# Altium schematic symbol library schlib1.schlib: 5 symbols
Pins are listed as number, name and electrical type; pins without a type are passive.

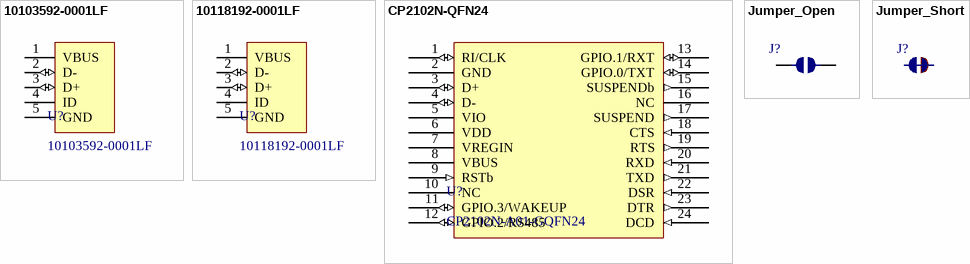
[diagram p0: symbols 10103592-0001LF to Jumper_Short]

## 10103592-0001LF
designator U?
CONN RCPT REV MICRO USB TYPE B; Manufacturer: Amphenol FCI; Connector Type: USB - micro B; Number of Contacts: 5; Gender: Receptacle; Specifications: USB 2.0; Supplier 1: Digi-Key; Manufacturer Part Number: 10103592-0001LF; RoHS: RoHS Compliant; Category: Connectors, Interconnects; Stock 1: 17913; Pricing 1: 1=0.76, 10=0.712, 25=0.6412, 50=0.57, 100=0.5462, 250=0.49872, 500=0.47498 (USD); Packaging: Cut Tape (CT); Part Status: Active; Mounting Type: Surface Mount, Right Angle, Horizontal; Features: Shielded, Solder Retention; Ingress Protection: -; ComponentLink1URL: http://portal.fciconnect.com/Comergent//fci/drawing/10103592.pdf; ComponentLink1Description: http://portal.fciconnect.com/Comergent//fci/drawing/10103592.pdf; Supplier Part Number 1: 609-4048-1-ND
footprint 10103592-0001LF (micro B USB 2.0 Receptacle Connector 5 Position Surface Mount, Right Angle, Horizontal Rev)
footprint 10103592-0001LF_NOSLOTS (micro B USB 2.0 Receptacle Connector 5 Position Surface Mount, Right Angle, Horizontal Rev)
pins: 0 (power) hidden to GND "SHLD", 1 VBUS (power), 2 D- (io), 3 D+ (io), 4 ID, 5 GND (power)

## 10118192-0001LF
designator U?
micro B USB 2.0 Receptacle Connector 5 Position Surface Mount, Right Angle, Horizontal; Manufacturer: Amphenol FCI; Connector Type: USB - micro B; Number of Contacts: 5; Specifications: USB 2.0; Supplier 1: Digi-Key; Manufacturer Part Number: 10118192-0001LF; RoHS: RoHS Compliant; Category: Connectors, Interconnects; Stock 1: 245206; Pricing 1: 1=0.46, 10=0.437, 25=0.3744, 50=0.318, 100=0.3056, 250=0.27444, 500=0.26196 (USD); Packaging: Digi-Reel®; Part Status: Active; Gender: Receptacle; Mounting Type: Surface Mount, Right Angle, Horizontal; Features: Flange, Shielded; Ingress Protection: -; ComponentLink1URL: http://portal.fciconnect.com/Comergent//fci/drawing/10118192.pdf; ComponentLink1Description: http://portal.fciconnect.com/Comergent//fci/drawing/10118192.pdf
footprint 10118192-0001LF (MICRO USB B RA RECP)
pins: 0 SHLD (power) hidden to GND "GND", 0 SHLD (power) hidden to GND "GND", 0 SHLD (power) hidden to GND "GND", 0 SHLD (power) hidden to GND "GND", 0 SHLD (power) hidden to GND "GND", 0 SHLD (power) hidden to GND "GND", 1 VBUS (power), 2 D- (io), 3 D+ (io), 4 ID, 5 GND (power)

## CP2102N-QFN24
designator U?, comment CP2102N-A01-GQFN24
USB-UART; Manufacturer: Silicon Labs; Supplier 1: Digi-Key; Manufacturer Part Number: CP2102N-A01-GQFN24; RoHS: RoHS Compliant; Category: Integrated Circuits (ICs); Stock 1: 57; Pricing 1: 1=1.35, 25=1.3044, 100=1.2543, 1000=1.18675 (USD); Part Status: Active; ComponentLink1URL: http://www.silabs.com/support%20documents/technicaldocs/cp2102n-datasheet.pdf; ComponentLink1Description: http://www.silabs.com/support%20documents/technicaldocs/cp2102n-datasheet.pdf
footprint CP2102N-QFN24 (QFN, 24-Leads, Body 4.00x4.00mm, Pitch 0.50mm, Thermal Pad 2.45x2.45mm, IPC Medium Density)
pins: 0 GND (power) hidden to GND "GND PAD", 1 RI/CLK (io) "Digital Input. Ring Indicator control input (active low). Digital Output. Clock output.", 2 GND (power), 3 D+ (io) "USB Data Positive", 4 D- (io) "USB Data Negative", 5 VIO "I/O Supply Power Input", 6 VDD "Supply Power Input /  5V Regulator Output", 7 VREGIN "5V Regulator Input", 8 VBUS "Digital Input. VBUS Sense Input. This pin should be connected to the VBUS signal of a USB  network. A 5 V signal on this pin indicates a USB network connection.", 9 RSTb (in) "Active-low Reset", 10 NC "leave floating", 11 GPIO.3/WAKEUP (io) "Digital Input/Output. General Purpose I/O.  Digital Input. Remote USB wakeup interrupt input.", 12 GPIO.2/RS485 (io) "Digital Input/Output. General Purpose I/O.  Digital Output. RS485 control signal.", 13 GPIO.1/RXT (io) "Digital Input/Output. General Purpose I/O.  Digital Output. Receive LED toggle", 14 GPIO.0/TXT (io) "Digital Input/Output. General Purpose I/O.  Digital Output. Transmit LED toggle.", 15 SUSPENDb (out) "Digital Output. This pin is driven low when the device enters the USB suspend state.", 16 NC, 17 SUSPEND (out) "Digital Output. This pin is driven high when the device enters the USB suspend state.", 18 CTS (in) "Digital Input. Clear To Send control input (active low).", 19 RTS (out) "Digital Output. Ready To Send control output (active low).", 20 RXD (in) "Digital Input. Asynchronous data input (UART Receive).", 21 TXD (out) "Digital Output. Asynchronous data output (UART Transmit).", 22 DSR (in) "Digital Input. Data Set Ready control input (active low).", 23 DTR (out) "Digital Output. Data Terminal Ready control output (active low).", 24 DCD (in) "Digital Input. Data Carrier Detect control input (active low)."

## Jumper_Open
designator J?  (value not drawn)
Open SMD Solder Jumper
footprint JO (Open Jumper)
pins: 1, 2

## Jumper_Short
designator J?  (value not drawn)
Shorted SMD Solder Jumper
footprint JS (Shorted Jumper)